# Altium footprint library diode.PCBLIB: 206 footprints (part 7 of 13)
Each footprint in its own frame and in the unit in brackets; x right, y up, seen from the top. Pads: shape width x height; smd on the part's side, far side on the other; paste and mask are expansions set on the pad; w line width, h text height; cw(c..) or ccw(c..) is an arc to the next point about the centre after c.
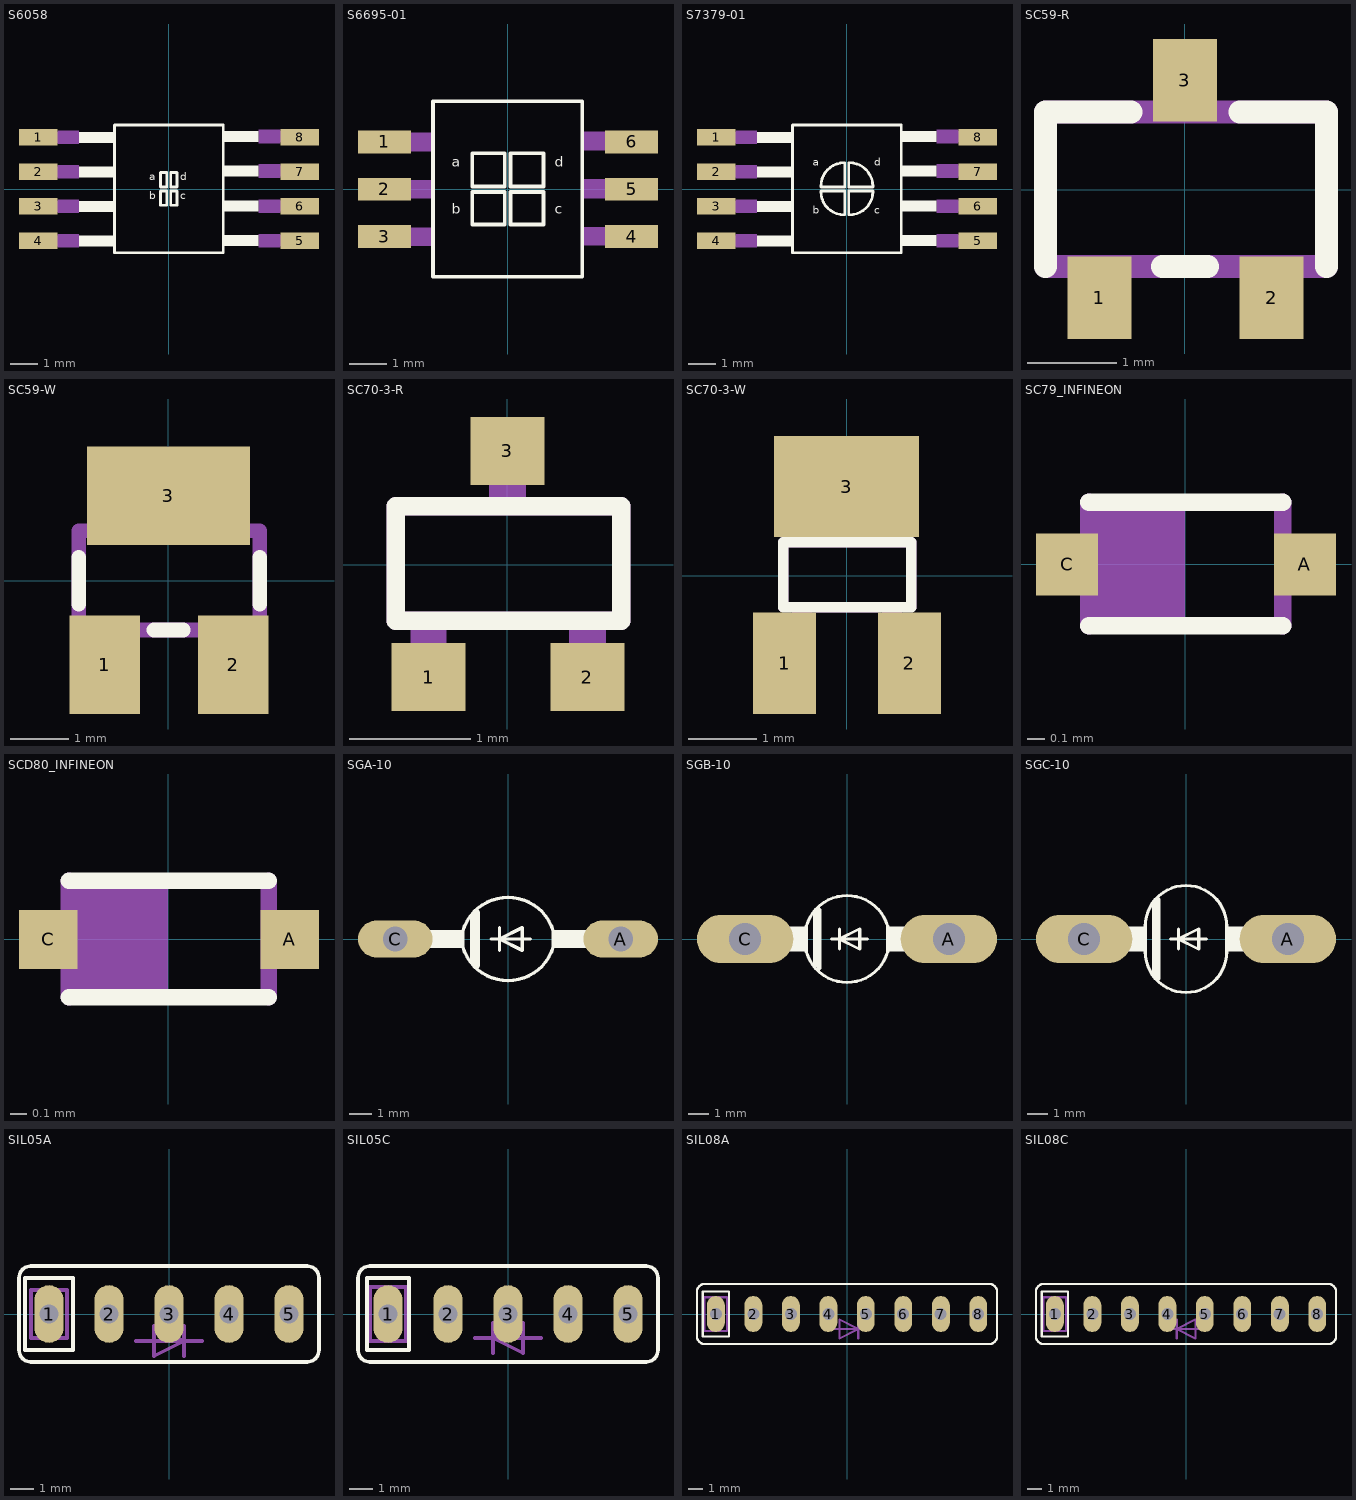
[diagram p6: the footprints below, top view; thin cyan lines are the x and y axes]

## S6058 [mil]
pads (8):
  rect 56x24 smd: 1(-189.17,75) 2(-189.17,25) 3(-189.17,-25) 4(-189.17,-75) 5(190,-75) 6(190,-25) 7(190,25) 8(190,75)
Top Overlay:
  rectangle: -129.92,67 -78.74,83
  rectangle: -129.92,17 -78.74,33
  rectangle: -129.92,-33.07 -78.74,-17.32
  rectangle: -129.92,-83.07 -78.74,-67.32
  region: 130,-66.93 79,-66.93 79,-82.68 130,-82.68
  region: 130,-16.93 79,-16.93 79,-32.68 130,-32.68
  region: 130,34 79,34 79,18 130,18
  region: 130,84 79,84 79,68 130,68
  lines w4: -78.74,-92.52 79,-92.52 79,93 -78.74,93 -78.74,-92.52 ; -11.81,-23.62 -11.81,-2.95 -2.95,-2.95 -2.95,-23.62 -11.81,-23.62 ; -11.81,3 -2.95,3 -2.95,24 -11.81,24 -11.81,3 ; 3,-23.62 3,-2.95 12,-2.95 12,-23.62 3,-23.62 ; 3,3 12,3 12,24 3,24 3,3
  text "a" at -28.54,9 h18.6
  text "b" at -28.54,-18.7 h18.6
  text "c" at 17,-18.7 h18.6
  text "d" at 17,9 h18.6
Mechanical 2:
  text ">NAME" at -75,100 h77.5
Mechanical 4:
  text ">VALUE" at -75,-150 h77.5
Mechanical 16:
  rectangle: -161.42,65 -129.92,85
  rectangle: -214.57,67 -161.42,83
  rectangle: -161.42,15 -129.92,35
  rectangle: -214.57,17 -161.42,33
  rectangle: -161.42,-35.04 -129.92,-15.35
  rectangle: -214.57,-33.07 -161.42,-17.32
  rectangle: -161.42,-85.04 -129.92,-65.35
  rectangle: -214.57,-83.07 -161.42,-67.32
  region: 162,-64.96 130,-64.96 130,-84.65 162,-84.65
  region: 215,-66.93 162,-66.93 162,-82.68 215,-82.68
  region: 162,-14.96 130,-14.96 130,-34.65 162,-34.65
  region: 215,-16.93 162,-16.93 162,-32.68 215,-32.68
  region: 162,36 130,36 130,16 162,16
  region: 215,34 162,34 162,18 215,18
  region: 162,86 130,86 130,66 162,66
  region: 215,84 162,84 162,68 215,68

## S6695-01 [mil]
pads (6):
  rect 56x24 smd: 1(-130.12,50) 2(-130.12,0) 3(-130.12,-50) 4(131,-50) 5(131,0) 6(131,50)
Top Overlay:
  lines w4: -78.74,-92.52 79,-92.52 79,93 -78.74,93 -78.74,-92.52 ; -37.4,-37.4 -37.4,-2.95 -2.95,-2.95 -2.95,-37.4 -37.4,-37.4 ; -37.4,3 -2.95,3 -2.95,38 -37.4,38 -37.4,3 ; 3,-37.4 3,-2.95 38,-2.95 38,-37.4 3,-37.4 ; 3,3 38,3 38,38 3,38 3,3
  text "a" at -59.06,20 h18.6
  text "b" at -59.06,-29.53 h18.6
  text "c" at 50,-29.53 h18.6
  text "d" at 50,20 h18.6
Mechanical 2:
  text ">NAME" at -75,100 h77.5
Mechanical 4:
  text ">VALUE" at -75,-150 h77.5
Mechanical 16:
  rectangle: -139.76,40 -79.72,60
  rectangle: -139.76,-10.04 -79.72,10
  rectangle: -139.76,-60.04 -79.72,-40.35
  region: 140,-39.96 80,-39.96 80,-59.65 140,-59.65
  region: 140,11 80,11 80,-9.65 140,-9.65
  region: 140,61 80,61 80,41 140,41

## S7379-01 [mil]
pads (8):
  rect 56x24 smd: 1(-189.17,75) 2(-189.17,25) 3(-189.17,-25) 4(-189.17,-75) 5(190,-75) 6(190,-25) 7(190,25) 8(190,75)
Top Overlay:
  rectangle: -129.92,67 -78.74,83
  rectangle: -129.92,17 -78.74,33
  rectangle: -129.92,-33.07 -78.74,-17.32
  rectangle: -129.92,-83.07 -78.74,-67.32
  region: 130,-66.93 79,-66.93 79,-82.68 130,-82.68
  region: 130,-16.93 79,-16.93 79,-32.68 130,-32.68
  region: 130,34 79,34 79,18 130,18
  region: 130,84 79,84 79,68 130,68
  lines w4: -78.74,-92.52 79,-92.52 79,93 -78.74,93 -78.74,-92.52 ; -37.4,-3.94 ccw(c-3.94,-3.94) -3.94,-37.4 -2.95,-37.4 -2.95,-2.95 -37.4,-2.95 -37.4,-3.94 ; -37.4,3 -2.95,3 -2.95,38 -3.94,38 ccw(c-3.67,4.27) -37.4,4 -37.4,3 ; 3,-37.4 3,-2.95 38,-2.95 38,-3.94 cw(c4.27,-3.67) 4,-37.4 3,-37.4 ; 3,3 38,3 38,4 ccw(c4,4) 4,38 3,38 3,3
  text "a" at -49.21,30 h18.6
  text "b" at -49.21,-39.37 h18.6
  text "c" at 40,-39.37 h18.6
  text "d" at 40,30 h18.6
Mechanical 2:
  text ">NAME" at -75,100 h77.5
Mechanical 4:
  text ">VALUE" at -75,-150 h77.5
Mechanical 16:
  rectangle: -161.42,65 -129.92,85
  rectangle: -214.57,67 -161.42,83
  rectangle: -161.42,15 -129.92,35
  rectangle: -214.57,17 -161.42,33
  rectangle: -161.42,-35.04 -129.92,-15.35
  rectangle: -214.57,-33.07 -161.42,-17.32
  rectangle: -161.42,-85.04 -129.92,-65.35
  rectangle: -214.57,-83.07 -161.42,-67.32
  region: 162,-64.96 130,-64.96 130,-84.65 162,-84.65
  region: 215,-66.93 162,-66.93 162,-82.68 215,-82.68
  region: 162,-14.96 130,-14.96 130,-34.65 162,-34.65
  region: 215,-16.93 162,-16.93 162,-32.68 215,-32.68
  region: 162,36 130,36 130,16 162,16
  region: 215,34 162,34 162,18 215,18
  region: 162,86 130,86 130,66 162,66
  region: 215,84 162,84 162,68 215,68

## SC59-R [mil]
pads (3):
  rect 28x36 smd: 1(-37.4,-47.24) 2(38,-47.24) 3(0,48)
Top Overlay:
  lines w10: -61.02,-33.46 -61.02,34 -23.62,34 ; -9.84,-33.46 10,-33.46 ; 24,34 62,34 62,-33.46
Mechanical 2:
  text ">NAME" at -64.96,73 h77.5
Mechanical 4:
  text ">VALUE" at -64.96,-122.05 h77.5
Mechanical 16:
  rectangle: -45.28,-59.06 -29.53,-37.4
  rectangle: 30,-59.06 46,-37.4
  rectangle: -7.87,38 8,60
  lines w10: -61.02,-33.46 62,-33.46 62,34 -61.02,34 -61.02,-33.46

## SC59-W [mil]
pads (3):
  rect 48x67 smd: 1(-43.31,-57.09) 2(44,-57.09)
  rect 111x67 smd: 3(0,58)
Top Overlay:
  lines w10: -61.02,-15.75 -61.02,16 ; -9.84,-33.46 10,-33.46 ; 62,-15.75 62,16
Mechanical 2:
  text ">NAME" at -64.96,99 h77.5
Mechanical 4:
  text ">VALUE" at -64.96,-149.61 h77.5
Mechanical 16:
  rectangle: -45.28,-59.06 -29.53,-37.4
  rectangle: 30,-59.06 46,-37.4
  rectangle: -7.87,38 8,60
  lines w10: -61.02,-33.46 62,-33.46 62,34 -61.02,34 -61.02,-33.46

## SC70-3-R [mil]
pads (3):
  rect 24x22 smd: 1(-25.59,-36.42) 2(26,-36.42) 3(0,37)
Top Overlay:
  lines w6: -36.31,-18.13 37,-18.13 37,19 -36.31,19 -36.31,-18.13
Mechanical 2:
  text ">NAME" at -39.37,52 h77.5
Mechanical 4:
  text ">VALUE" at -39.37,-102.36 h77.5
Mechanical 16:
  rectangle: -31.5,-43.31 -19.68,-19.68
  rectangle: 20,-43.31 32,-19.68
  rectangle: -5.91,20 6,44
  lines w6: -36.31,-18.13 37,-18.13 37,19 -36.31,19 -36.31,-18.13

## SC70-3-W [mil]
pads (3):
  rect 36x58 smd: 1(-35.43,-50.2) 2(36,-50.2)
  rect 83x58 smd: 3(0,51)
Top Overlay:
  lines w6: -36.31,-18.13 37,-18.13 37,19 -36.31,19 -36.31,-18.13
Mechanical 2:
  text ">NAME" at -39.37,87 h77.5
Mechanical 4:
  text ">VALUE" at -39.37,-131.89 h77.5
Mechanical 16:
  rectangle: -31.5,-43.31 -19.68,-19.68
  rectangle: 20,-43.31 32,-19.68
  rectangle: -5.91,20 6,44
  lines w6: -36.31,-18.13 37,-18.13 37,19 -36.31,19 -36.31,-18.13

## SC79_INFINEON [mil]
pads (2):
  rect 14x14 smd: A(27,0) C(-26.57,0)
Top Overlay:
  lines w4: -21.65,-13.78 22,-13.78 ; -21.65,14 22,14
Mechanical 2:
  text ">NAME" at -31.5,24 h77.5
Mechanical 4:
  text ">VALUE" at -31.5,-70.87 h77.5
Mechanical 16:
  rectangle: -31.5,-5.91 -21.65,6
  rectangle: 22,-5.91 32,6
  rectangle: -21.65,-13.78 0,14
  lines w4: -21.65,-13.78 -21.65,14 ; 22,-13.78 22,14

## SCD80_INFINEON [mil]
pads (2):
  rect 14x14 smd: A(29,0) C(-28.54,0)
Top Overlay:
  lines w4: -23.62,-13.78 24,-13.78 ; -23.62,14 24,14
Mechanical 2:
  text ">NAME" at -35.43,20 h77.5
Mechanical 4:
  text ">VALUE" at -35.43,-70.87 h77.5
Mechanical 16:
  rectangle: -23.62,-13.78 0,14
  rectangle: -33.46,-5.91 -23.62,6
  rectangle: 24,-5.91 34,6
  lines w4: -23.62,-13.78 -23.62,14 ; 24,-13.78 24,14

## SGA-10 [mil]
pads (2):
  oval 132x66 hole 44: A(200,0) C(-200,0)
Top Overlay:
  rectangle: 80,-16 152,16
  rectangle: -152,-16 -80,16
  lines w6: -30,0 -15,0 ; -15,-20 -15,0 ; -15,20 -15,0 ; 40,0 -15,0 ; -15,0 25,-20 25,20 -15,0 ; -80,-15 -80,15 cw(c0,-10) 80,15 80,-15 cw(c0,10) -80,-15
  lines w10: -62,-40 -62,41 ; -55,-47 -55,47
Mechanical 2:
  text ">NAME" at -100,90 h77.5
Mechanical 4:
  text ">VALUE" at -100,-140 h77.5
Mechanical 16:
  lines w32: -200,0 -125,0 ; 125,0 200,0

## SGB-10 [mil]
pads (2):
  oval 189x94.5 hole 63: A(200,0) C(-200,0)
Top Overlay:
  rectangle: -130,-25 -80,25
  rectangle: 80,-25 130,25
  lines w6: -30,0 -15,0 ; -15,-20 -15,0 ; -15,20 -15,0 ; 40,0 -15,0 ; -15,0 25,-20 25,20 -15,0 ; -80,-25 -80,25 cw(c0,2) 80,25 80,-25 cw(c0,-2) -80,-25
  lines w10: -62,-50 -62,51 ; -55,-57 -55,57
Mechanical 2:
  text ">NAME" at -100,100 h77.5
Mechanical 4:
  text ">VALUE" at -100,-150 h77.5
Mechanical 16:
  lines w50: -200,0 -125,0 ; 125,0 200,0

## SGC-10 [mil]
pads (2):
  oval 189x94.5 hole 63: A(200,0) C(-200,0)
Top Overlay:
  rectangle: -130,-25 -80,25
  rectangle: 80,-25 130,25
  lines w6: -30,0 -15,0 ; -15,-20 -15,0 ; -15,20 -15,0 ; 40,0 -15,0 ; -15,0 25,-20 25,20 -15,0 ; -80,-25 -80,25 cw(c0,25) 80,25 80,-25 cw(c0,-25) -80,-25
  lines w10: -62,-70 -62,70 ; -55,-77 -55,77
Mechanical 2:
  text ">NAME" at -100,115 h77.5
Mechanical 4:
  text ">VALUE" at -100,-170 h77.5
Mechanical 16:
  lines w50: -200,0 -125,0 ; 125,0 200,0

## SIL05A [mil]
pads (5):
  oval 48x96 hole 32: 1(-200,0) 2(-100,0) 3(0,0) 4(100,0) 5(200,0)
Top Overlay:
  lines w6: -250,-60 ccw(c-230,-60) -230,-80 230,-80 ccw(c230,-60) 250,-60 250,60 ccw(c230,60) 230,80 -230,80 ccw(c-230,60) -250,60 -250,-60 ; -240,-60 -160,-60 -160,60 -240,60 -240,-60
Mechanical 2:
  text ">NAME" at -240,90 h77.5
Mechanical 4:
  text ">VALUE" at -245,-140 h77.5
Mechanical 16:
  lines w6: -55,-45 -25,-45 ; 25,-70 25,-45 ; 25,-20 25,-45 ; 55,-45 25,-45 ; -25,-45 -25,-70 25,-45 ; -25,-45 -25,-20 25,-45 ; -25,-45 25,-45 ; -230,-40 -170,-40 -170,40 -230,40 -230,-40

## SIL05C [mil]
pads (5):
  oval 48x96 hole 32: 1(-200,0) 2(-100,0) 3(0,0) 4(100,0) 5(200,0)
Top Overlay:
  lines w6: -250,-60 ccw(c-230,-60) -230,-80 230,-80 ccw(c230,-60) 250,-60 250,60 ccw(c230,60) 230,80 -230,80 ccw(c-230,60) -250,60 -250,-60 ; -235,-60 -165,-60 -165,60 -235,60 -235,-60
Mechanical 2:
  text ">NAME" at -235,90 h77.5
Mechanical 4:
  text ">VALUE" at -235,-140 h77.5
Mechanical 16:
  lines w6: -55,-40 -25,-40 ; -25,-65 -25,-40 ; -25,-15 -25,-40 ; 55,-40 25,-40 ; -25,-40 25,-15 25,-40 ; -25,-40 25,-65 25,-40 ; -25,-40 25,-40 ; -230,-45 -170,-45 -170,45 -230,45 -230,-45

## SIL08A [mil]
pads (8):
  oval 48x96 hole 32: 1(-350,0) 2(-250,0) 3(-150,0) 4(-50,0) 5(50,0) 6(150,0) 7(250,0) 8(350,0)
Top Overlay:
  lines w6: -400,-60 ccw(c-380,-60) -380,-80 380,-80 ccw(c380,-60) 400,-60 400,60 ccw(c380,60) 380,80 -380,80 ccw(c-380,60) -400,60 -400,-60 ; -385,-60 -315,-60 -315,60 -385,60 -385,-60
Mechanical 2:
  text ">NAME" at -380,90 h77.5
Mechanical 4:
  text ">VALUE" at -380,-140 h77.5
Mechanical 16:
  lines w6: -50,-40 -20,-40 ; 30,-65 30,-40 ; 30,-15 30,-40 ; 60,-40 30,-40 ; -20,-40 -20,-65 30,-40 ; -20,-40 -20,-15 30,-40 ; -20,-40 30,-40 ; -380,-45 -320,-45 -320,45 -380,45 -380,-45

## SIL08C [mil]
pads (8):
  oval 48x96 hole 32: 1(-350,0) 2(-250,0) 3(-150,0) 4(-50,0) 5(50,0) 6(150,0) 7(250,0) 8(350,0)
Top Overlay:
  lines w6: -400,-60 ccw(c-380,-60) -380,-80 380,-80 ccw(c380,-60) 400,-60 400,60 ccw(c380,60) 380,80 -380,80 ccw(c-380,60) -400,60 -400,-60 ; -385,-60 -315,-60 -315,60 -385,60 -385,-60
Mechanical 2:
  text ">NAME" at -380,90 h77.5
Mechanical 4:
  text ">VALUE" at -380,-140 h77.5
Mechanical 16:
  lines w6: -55,-40 -25,-40 ; -25,-65 -25,-40 ; -25,-15 -25,-40 ; 55,-40 25,-40 ; -25,-40 25,-15 25,-40 ; -25,-40 25,-65 25,-40 ; -25,-40 25,-40 ; -380,-45 -320,-45 -320,45 -380,45 -380,-45